# Altium schematic symbol library SCH - POWER - VOLTAGE REFERENCES - MAXIM MAX6120.SCHLIB: 1 symbol
Pins are listed as number, name and electrical type; pins without a type are passive.

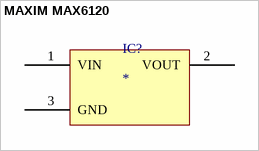
[diagram p0: symbol MAXIM MAX6120]

## MAXIM MAX6120
designator IC?
pins: 1 VIN, 2 VOUT, 3 GND